# Altium footprint library CRISTAL.PcbLib: 1 footprints
Each footprint in its own frame and in the unit in brackets; x right, y up, seen from the top. Pads: shape width x height; smd on the part's side, far side on the other; paste and mask are expansions set on the pad; w line width, h text height; cw(c..) or ccw(c..) is an arc to the next point about the centre after c.
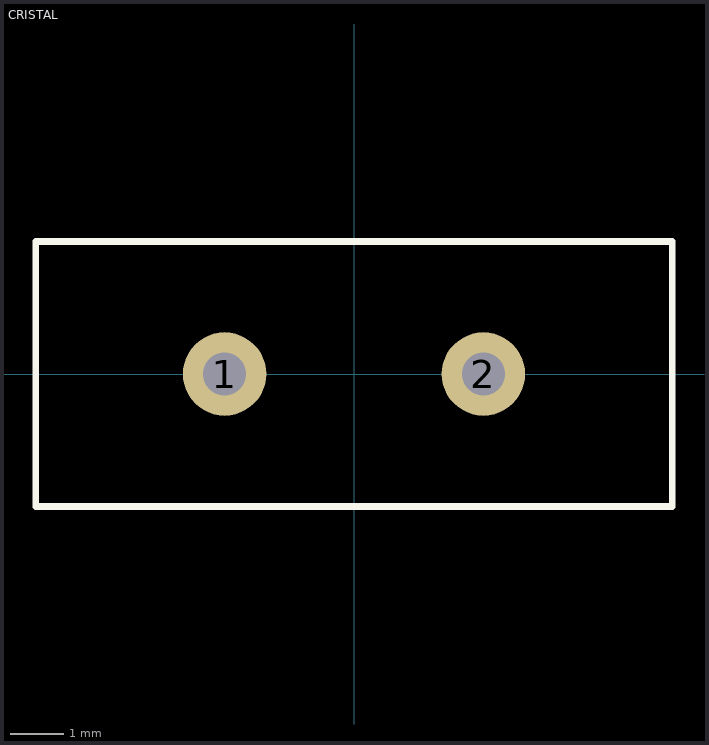
[diagram p0: the footprint, top view; thin cyan lines are the x and y axes]

## CRISTAL [mil]
height 21.65
pads (2):
  round 62 hole 32: 1(-96.06,0) 2(96.06,0)
Top Overlay:
  lines w5: -236.22,-98.43 -236.22,98.43 236.22,98.43 236.22,-98.43 -236.22,-98.43
3D body: height 137.8, standoff -157.48, extent -223.43,-91.43 223.43,91.65